# EAGLE library part LM741 (library #PaJa_31)
OZ - s kompenz. vstupu
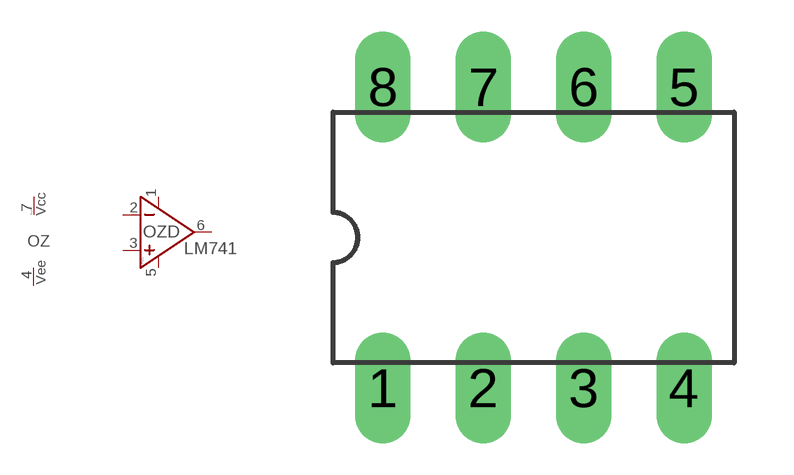
[diagram p5: symbol with the pads of DIL8; footprint DIL8]

Designator prefix OZ; gates NS=POWER_SY D=OZ-1

## LM741  [DIL8]
1  D:OFF.N1  pas
2  D:IN-  in
3  D:NEIN+  in
4  NS:VEE  pwr
5  D:OFF.N2  pas
6  D:VYSTUP  out
7  NS:VCC  pwr

## Footprint DIL8 (pad centres in mm)
drill 0.813 pad 1.4 long: 1 -3.81,-3.81; 2 -1.27,-3.81; 3 1.27,-3.81; 4 3.81,-3.81; 5 3.81,3.81; 6 1.27,3.81; 7 -1.27,3.81; 8 -3.81,3.81